# Altium schematic symbol library SCH - SENSOR - MOTION - INVENSENSE MPU-9250.SCHLIB: 1 symbol
Pins are listed as number, name and electrical type; pins without a type are passive.

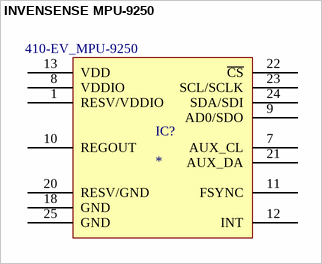
[diagram p0: symbol INVENSENSE MPU-9250]

## INVENSENSE MPU-9250
designator IC?  Supplier Part Number 1: 410-EV_MPU-9250
MPU-9250 9-Axis MEMS MotionTracking Device Evaluation Board; Manufacturer: TDK InvenSense; Manufacturer Part Number: EV_MPU-9250; Sensor Type: Accelerometer,Gyroscope,Magnetometer,3 Axis; Interface: I2C,SPI; Evaluation Kit: Yes; Supplier 1: Mouser; RoHS: Yes; Category: Integrated Circuits (ICs); Package Quantity: 1; ComponentLink1URL: http://store.invensense.com/datasheets/invensense/AN-IVS-0001EVB-00%20v1.1.pdf?src-supplier=Digikey; ComponentLink1Description: http://store.invensense.com/datasheets/invensense/AN-IVS-0001EVB-00%20v1.1.pdf?src-supplier=Digikey; ComponentLink2URL: https://www.invensense.com/wp-content/uploads/2015/02/MPU-9150-Evaluation-Board.pdf?src-supplier=Digikey; ComponentLink2Description: https://www.invensense.com/wp-content/uploads/2015/02/MPU-9150-Evaluation-Board.pdf?src-supplier=Digikey
pins: 1 RESV/VDDIO, 7 AUX_CL, 8 VDDIO, 9 AD0/SDO, 10 REGOUT, 11 FSYNC, 12 INT, 13 VDD, 18 GND, 20 RESV/GND, 21 AUX_DA, 22 ~{CS}, 23 SCL/SCLK, 24 SDA/SDI, 25 GND